# EAGLE library part 691307300008 (library WR-TBL Pluggable Connector)
WR-TBL Serie 3073 - 3.81 mm Vertical Reversed PCB Header KIND PROPERTIES Pitch 3.81 mm MATERIAL PROPERTIES Insulator Material PA66 Insulator Flammability Rating UL94 V-0 Contact Material Copper Alloy Contact Plating Tin Contact Type Stamped GENERAL INFORMATION Operating Temperature -40 up to +115 °C Compliance Lead free / RoHS ELECTRICAL PROPERTIES IR UL 8 A Working Voltage [UL] 300 V (AC) Withstanding Voltage [cULus] 1600 V (AC) Contact Resistance [cULus] 20 mΩ Mechanical Properties Wire Strip Length 7 CERTIFICATION UL Approval E315414 <https://www.we-online.com/catalog/media/o60791v209%20Family_TBL_3_81_3073_VERTICAL_RESERVED_PCB_HEADER_6913073000XX.jpg> Details see: https://www.we-online.com/catalog/en/TBL_3_81_3073_VERTICAL_REVERSED_PCB_HEADER_6913073000XX/ Updated by Ella Wu 2022-07-25 2022(C) Wurth Elektronik
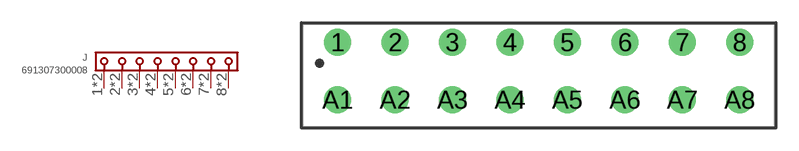
[diagram p194: symbol with the pads of 691307300008; footprint 691307300008]

Designator prefix J

## 691307300008 (DATASHEET-URL: https://www.we-online.com/redexpert/spec/691307300008?ae; IR-UL: 8A; MOUNT: THT; PART-NUMBER: 691307300008; PINS: 8; PITCH: 3.81mm; TYPE: Vertical; VALUE: 691307300008; WORKING-VOLTAGE-UL: 300V (AC))  [691307300008]
1  1  pas
2  2  pas
3  3  pas
4  4  pas
5  5  pas
6  6  pas
7  7  pas
8  8  pas
A1  1  pas
A2  2  pas
A3  3  pas
A4  4  pas
A5  5  pas
A6  6  pas
A7  7  pas
A8  8  pas

## Footprint 691307300008 (pad centres in mm)
WR-TBL Serie 3073 - 3.81 mm Vertical Reversed PCB Header Max Height = 14.5mm , Pitch 3.81mm , 8pins
drill 1.2: 1 -13.335,1.905; 2 -9.525,1.905; 3 -5.715,1.905; 4 -1.905,1.905; 5 1.905,1.905; 6 5.715,1.905; 7 9.525,1.905; 8 13.335,1.905; A1 -13.335,-1.905; A2 -9.525,-1.905; A3 -5.715,-1.905; A4 -1.905,-1.905; A5 1.905,-1.905; A6 5.715,-1.905; A7 9.525,-1.905; A8 13.335,-1.905